# EAGLE library part CARD_READER (library dragCustom)
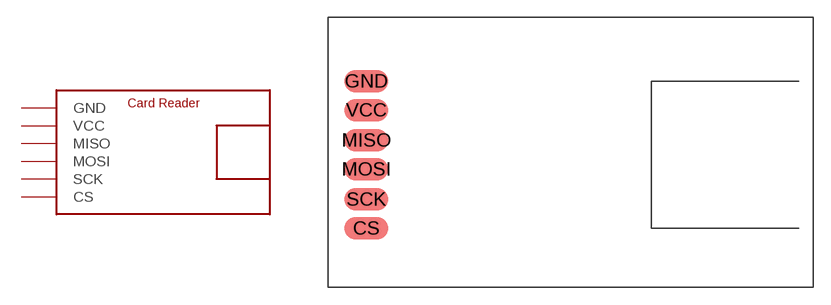
[diagram p19: symbol with the pads of CARD_READER; footprint CARD_READER]

Designator prefix -

## CARD_READER  [CARD_READER]
CS  CS
GND  GND
MISO  MISO
MOSI  MOSI
SCK  SCK
VCC  VCC

## Footprint CARD_READER (pad centres in mm)
smd 3.81 x 1.93: CS 3.3,5.1; GND 3.3,17.8; MISO 3.3,12.7; MOSI 3.3,10.2; SCK 3.3,7.6; VCC 3.3,15.3